# Altium footprint library SOD-523-2.PcbLib: 1 footprints
Each footprint in its own frame and in the unit in brackets; x right, y up, seen from the top. Pads: shape width x height; smd on the part's side, far side on the other; paste and mask are expansions set on the pad; w line width, h text height; cw(c..) or ccw(c..) is an arc to the next point about the centre after c.
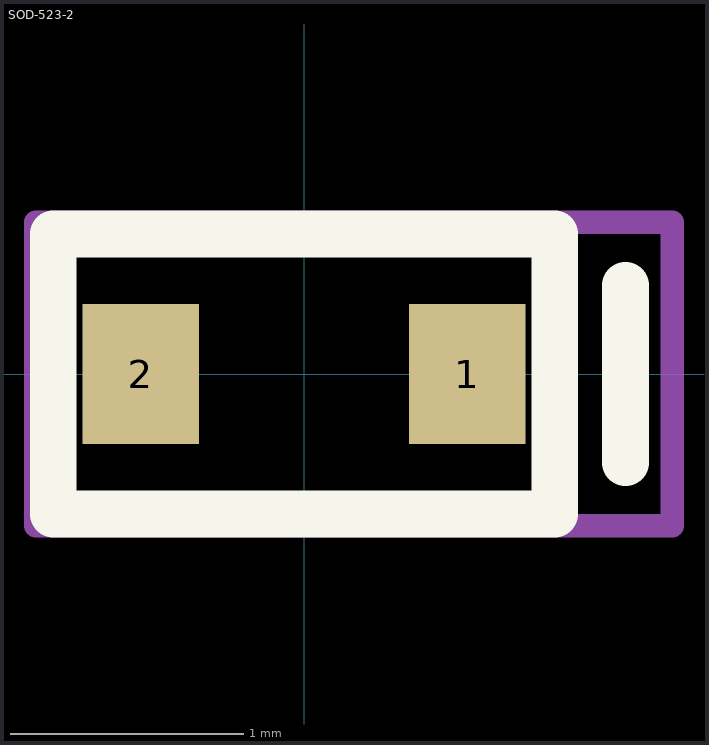
[diagram p0: the footprint, top view; thin cyan lines are the x and y axes]

## SOD-523-2 [mm]
pads (2):
  rect 0.5x0.6 smd paste-0.05: 1(0.7,0) 2(-0.7,0)
Top Overlay:
  lines w0.2: 1.378,-0.38 1.378,0.38 ; -1.075,-0.6 -1.075,0.6 1.075,0.6 1.075,-0.6 -1.075,-0.6
Top Courtyard:
  lines w0.1: -1.15,-0.65 -0.475,-0.65 1.578,-0.65 1.578,0.65 -1.15,0.65 -1.15,-0.65
3D body "step_temp.STEP": height 0.65, standoff 0, extent -0.8,-0.4 0.8,0.4